# Altium integrated library Diodes.IntLib: 24 symbols
Pins are listed as number, name and electrical type; pins without a type are passive.

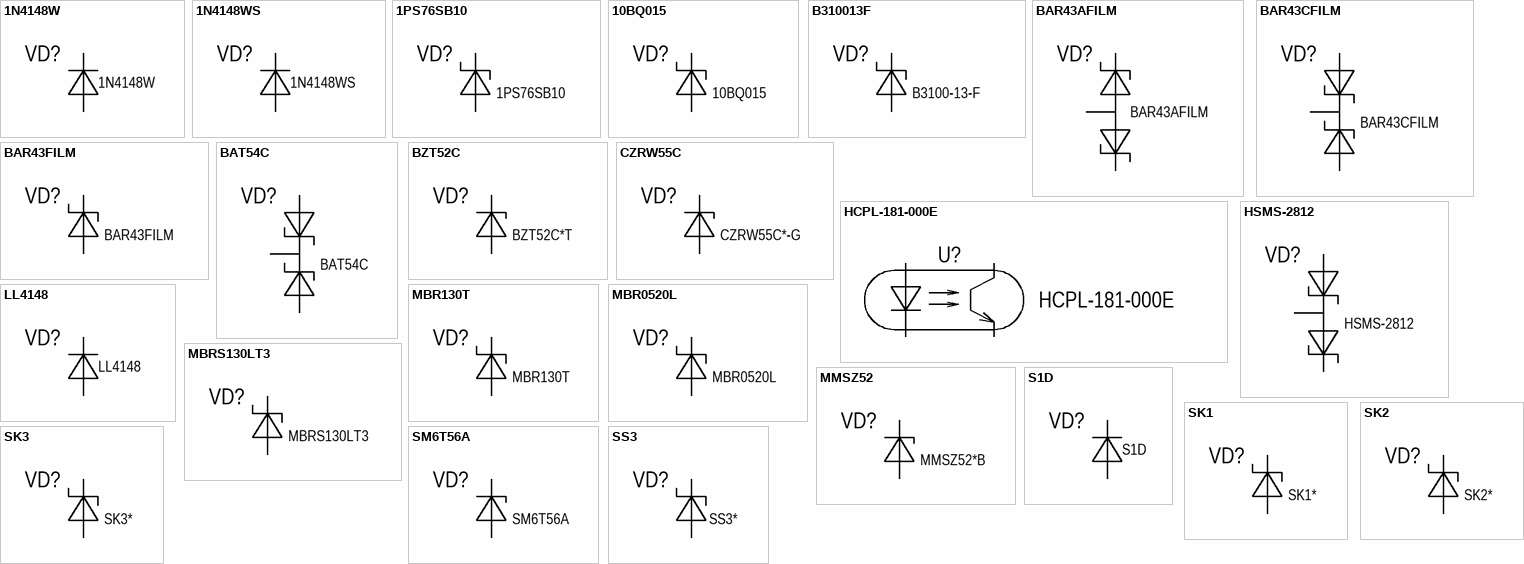
[diagram p0: symbols 1N4148W to SS3]

## 1N4148W
designator VD?
Diode 100V 300mA SOD-123; Part: 1N4148W
footprint SOD-123
pins: 1 Cathode, 2 Anode

## 1N4148WS
designator VD?
Diode 75V 150mA SOD-323; Part: 1N4148WS
footprint SOD-323
pins: 1 Cathode, 2 Anode

## 1PS76SB10
designator VD?
Diode Schottky 30V 200mA SOD-323
footprint SOD-323
pins: 1 Сathode, 2 Anode

## 10BQ015
designator VD?
Diode Schottky 15V 1A SMB; Part: 10BQ015
footprint SMB
pins: 1 Сathode "collector", 2 Anode "emitter"

## B310013F
designator VD?, comment B3100-13-F
Diode Schottky 100V 3A SMC; Part: B310013F; Current: 3.0 AMPERE; Forward Voltage Drop: 0.79 Volts IF = 3.0A, TA = 25°C; Voltage: 100V
footprint SMC
pins: 1 Сathode "collector", 2 Anode "emitter"

## BAR43AFILM
designator VD?
Diode Array Schottky 30V 100mA SOT23-3; Part No: Bar43AFILM
footprint SOT-23
pins: 1 Cathode, 2 Cathode, 3 Anode

## BAR43CFILM
designator VD?
Diode Array Schottky 30V 100mA SOT23-3; Part No: Bar43CFILM
footprint SOT-23
pins: 1 Anode, 2 Anode, 3 Сathode

## BAR43FILM
designator VD?
Diode Schottky 30V 100mA SOT23-3; Part No: Bar43FILM
footprint SOT-23
pins: 1 Anode, 3 Cathode

## BAT54C
designator VD?
Diode Array Schottky 30V 200mA SOT23-3; Part: BAT54C
footprint SOT-23
pins: 1 Anode, 2 Anode, 3 Сathode

## BZT52C
designator VD?, comment BZT52C*T
Diode Zener 2.0 to 36V 300mW SOD-523; Part: BZT52C; Voltage: *
footprint SOD-523
pins: 1 С, 2 A

## CZRW55C
designator VD?, comment CZRW55C*-G
Diode Zener 2.4 to 39V 500mW SOD-123; Part: CZRW55C; Voltage: *
footprint SOD-123
pins: 1 С, 2 A

## HCPL-181-000E
designator U?
Optoisolator Transistor Output 3750Vrms 1 Channel 4-SO
footprint HCPL-181 (SOT143, 4-Leads, Body 3,70x6,75mm, Pitch 2,55mm, IPC Medium Density)
pins: 1, 2, 3, 4

## HSMS-2812
designator VD?
Diode Array Schottky 20V 1A SOT23-3; Part: HSMS-2812
footprint SOT-23
pins: 1 Anode, 2 Cathode, 3 Сathode/Anode

## LL4148
designator VD?
Small Signal Fast Switching Diodes, 100V, 300mA
footprint MiniMELF
pins: 1 Cathode, 2 Anode

## MBR130T
designator VD?
Diode Schottky 30V 1A SOD-123; Part: MBR130T1G
footprint SOD-123
pins: 1 С, 2 A

## MBR0520L
designator VD?
Diode Schottky 20V 0.5A SOD-123; Part: MBR0520L
footprint SOD-123
pins: 1 Сathode "collector", 2 Anode "emitter"

## MBRS130LT3
designator VD?
Diode Schottky 30V 2A SMB; Current: 1.0 AMPERE; Forward Voltage Drop: 0.395 Volts Max @ 1.0 A, TJ = 25°C; Part: MBRS130LT3; Voltage: 30V
footprint SMB
pins: 1 Сathode "collector", 2 Anode "emitter"

## MMSZ52
designator VD?, comment MMSZ52*B
Diode Zener 2.4 to 75V 500mW SOD-123; Part: MMSZ52; Voltage_Code: *
footprint SOD-123
pins: 1 С, 2 A

## S1D
designator VD?
Diode 200V 1A SMA; Part: S1D
footprint SMA
pins: 1 Cathode, 2 Anode

## SK1
designator VD?, comment SK1*
Diode Schottky 20V to 100V 1A SMB; Part: SK1; Voltage: *
footprint SMB
pins: 1 Сathode "collector", 2 Anode "emitter"

## SK2
designator VD?, comment SK2*
Diode Schottky 20V to 200V 2A SMB; Part: SK2; Voltage: *
footprint SMB
pins: 1 Сathode "collector", 2 Anode "emitter"

## SK3
designator VD?, comment SK3*
Diode Schottky 20V to 100V 3A SMC; Part: SK3; Voltage: *
footprint SMC
pins: 1 Сathode "collector", 2 Anode "emitter"

## SM6T56A
designator VD?
Diode Zener 100V 600W SMB; Part: SM6T56A
footprint SMB
pins: 1 С, 2 A

## SS3
designator VD?, comment SS3*
Diode Schottky 20V to 60V 3A SMC; Part: SS3; Voltage: *
footprint SMC
pins: 1 Сathode "collector", 2 Anode "emitter"